# Altium integrated library Linear Technology Power Management LED Driver ICs.IntLib: 490 symbols (part 2 of 48)
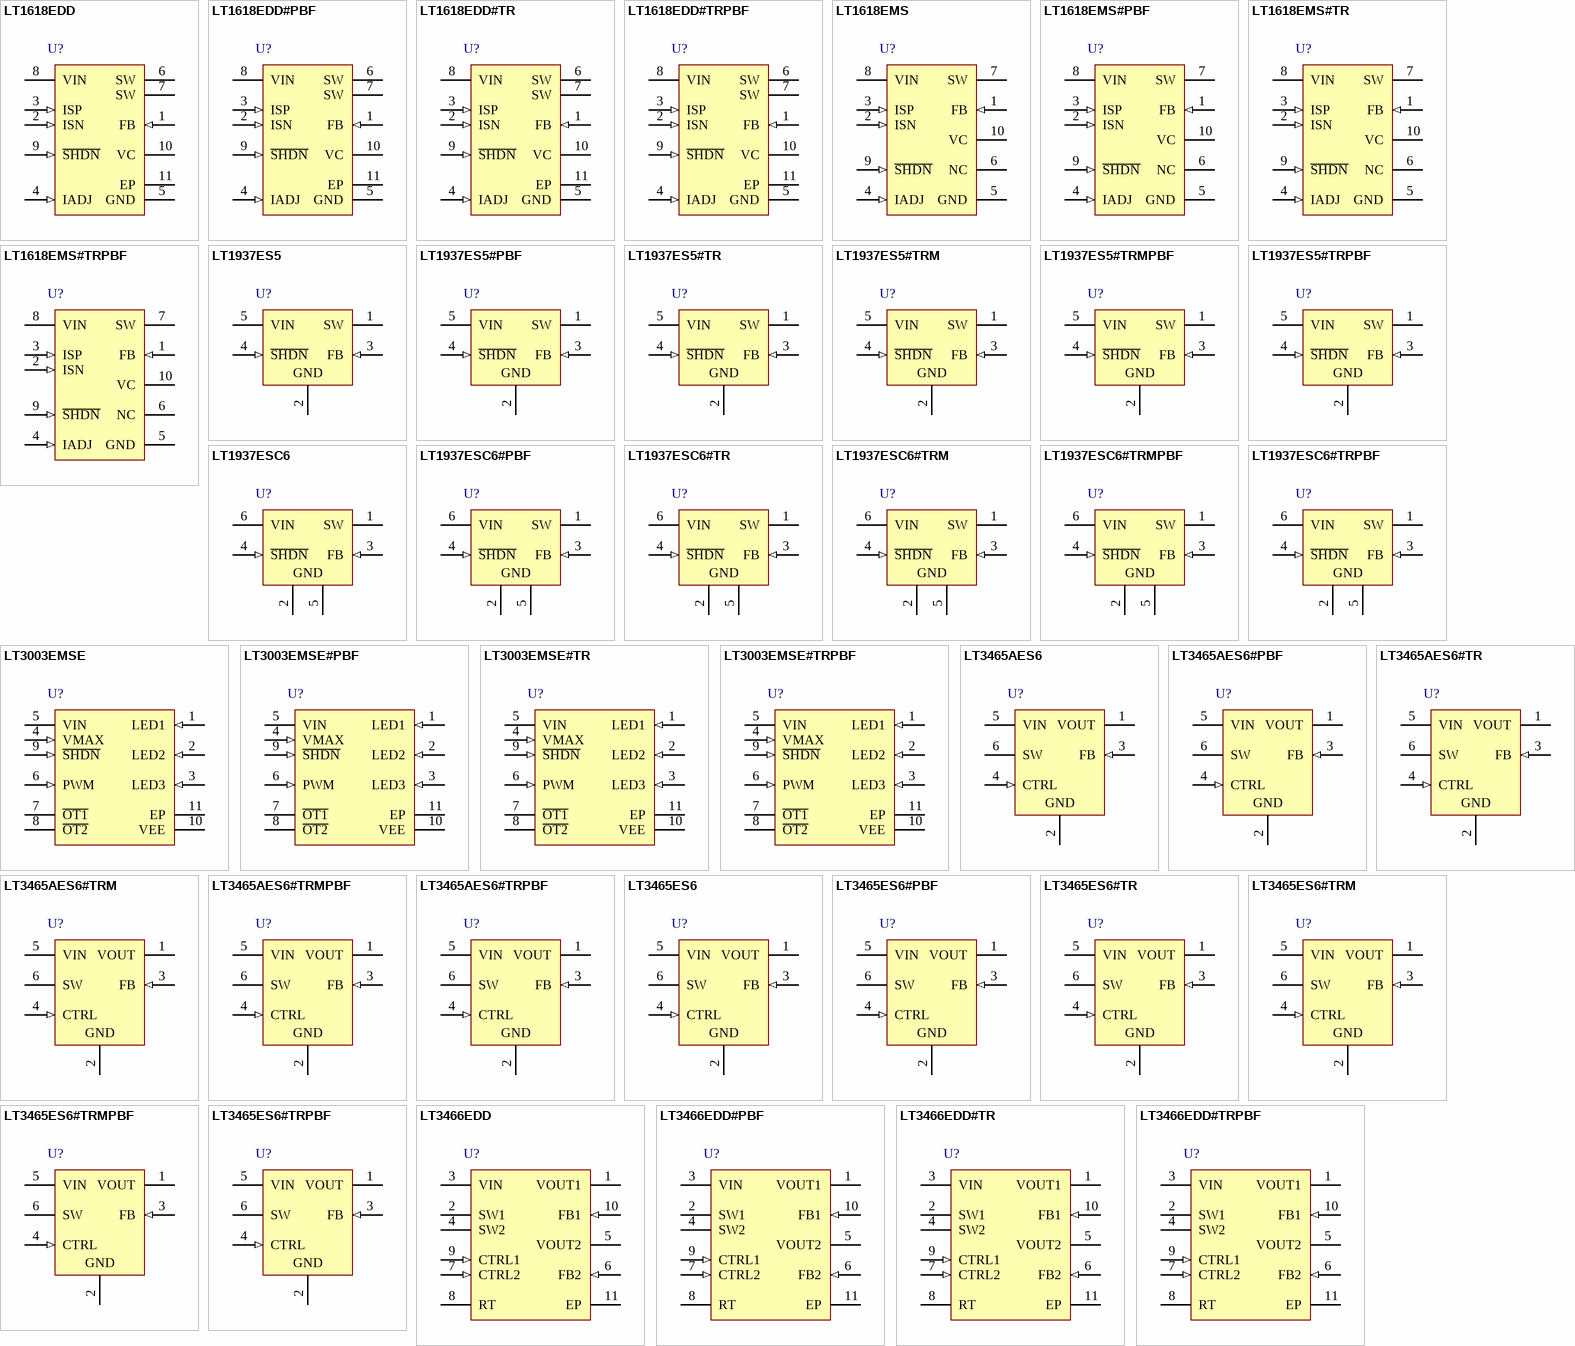
[diagram p21: symbols LT1618EDD to LT3466EDD#TRPBF]

## LT3003EMSE#TRPBF
designator U?
3-Channel LED Ballaster with PWM, 3 to 40 V Vin, 10-pin SOP (MSE-10-EDP), -40 to 125 degC, Pb-Free, Tape and Reel; Manufacturer: Linear Technology; PartNumber: LT3003EMSE#TRPBF; Vin Min(V): 3; DatasheetVersion: Rev. A; PackageVersion: Rev. C, 08/2009; PackageReference: MSE-10; PackageDescription: 10-Pin Plastic MSOP, Exposed Die Pad, Body 3 x 3 mm, Pitch 0.5 mm; Supplier 1: Digi-Key; Supplier Part Number 1: LT3003EMSE#TRPBF-ND; Packing: Tape and Reel; RoHS: TRUE; Topology: Ballaster; Mounting Technology: Surface Mount; ComponentLink1Description: Manufacturer URL; ComponentLink1URL: http://www.linear.com/; ComponentLink2Description: Datasheet; ComponentLink2URL: http://cds.linear.com/docs/en/datasheet/3003fa.pdf; ComponentLink3Description: Package Specification; ComponentLink3URL: http://cds.linear.com/docs/en/datasheet/3481fc.pdf
footprint LT-MSE-10-EDP-2060x1830TP_N (SOP, 10-Leads, Body 3.1x3.1mm, Pitch 0.5mm, Thermal Pad 2.17x1.94mm, IPC Medium Density)
footprint LT-MSE-10-EDP-2060x1830TP_L (SOP, 10-Leads, Body 3.1x3.1mm, Pitch 0.5mm, Thermal Pad 2.17x1.94mm, IPC High Density)
footprint LT-MSE-10-EDP-2060x1830TP_M (SOP, 10-Leads, Body 3.1x3.1mm, Pitch 0.5mm, Thermal Pad 2.17x1.94mm, IPC Low Density)
pins: 1 LED1 (in) "Controlled current input for a string of LEDs with a cathode lead connected to the pin. Connect the first string of LEDs to this pin.", 2 LED2 (in) "Controlled current input for a string of LEDs with a cathode lead connected to the pin. Connect the second string of LEDs to this pin.", 3 LED3 (in) "Controlled current input for a string of LEDs with a cathode lead connected to the pin. Connect the third string of LEDs to this pin.", 4 VMAX (in) "Boost: Connect to VOUT. Buck Mode: Connect to Input Supply. Buck-Boost Mode: Connect to VOUT.", 5 VIN (power) "Input Supply, Upper Rail. This pin must be locally bypassed with a capacitor to ground. VIN powers the internal control circuitry.", 6 PWM (in) "Input Pin for PWM Dimming Control. A PWM signal above 0.5V (on threshold) turns the LT3003 channels on. A PWM signal below 0.5V completely disconnects each LED string. If the application does not require PWM dimming, then (See Datasheet)", 7 ~{OT1} (oc) "Overtemperature Output. O\T\1\ pulls 100uA from the pin when the junction temperature exceeds 125degC. The part has to cool down by 6degC for the flag to reset; ideal for providing an overtemperature flag to the system (See Datasheet)", 8 ~{OT2} (oc) "Overtemperature Output. O\T\2\ Pulls 300uA from the pin when the junction temperature exceeds 125degC. The part has to cool down by 6degC for the flag to reset; ideal for connecting to the switching regulator gm error (See Datasheet)", 9 ~{SHDN} (in) "Micropower Shutdown Pin. Below 0.7V shuts down the IC. Typically IVIN = 4uA for SHDN = 0V.", 10 VEE (power) "Lower Rail.", 11 EP (power) "GND. The ground for the IC should be soldered to a continuous copper ground plane under the LT3003 die. Soldering the Exposed Pad to the copper ground plane under the device will reduce thermal resistance and increase the (See Datasheet)"

## LT3465AES6
designator U?
Integrated Schottky Ideal for White LED, 2.7 to 16 V Vin, 30 V Vout MAX, 6-pin SOT23 (S6-6), -40 to 85 degC; Manufacturer: Linear Technology; PartNumber: LT3465AES6; Topology: Boost, LED Driver; Vin Min(V): 2.7; DatasheetVersion: Rev. A; PackageVersion: Jun-10; PackageReference: S6-6; PackageDescription: 6-Pin Plastic TSOT-23, Body 2.9 x 1.63 mm, Pitch 0.95 mm; RoHS: FALSE; Mounting Technology: Surface Mount; Code_JEDEC: MO-193; ComponentLink1Description: Manufacturer URL; ComponentLink1URL: http://www.linear.com/; ComponentLink2Description: Datasheet; ComponentLink2URL: http://cds.linear.com/docs/en/datasheet/3465fa.pdf; ComponentLink3Description: Package Specification; ComponentLink3URL: http://cds.linear.com/docs/en/packaging/SOT_6_05-08-1636.pdf
footprint LT-S6-6-TSOT-23_N (SOT23, 6-Leads, Body 2.9x1.75mm, Pitch 0.95mm, IPC Medium Density)
footprint LT-S6-6-TSOT-23_L (SOT23, 6-Leads, Body 2.9x1.75mm, Pitch 0.95mm, IPC High Density)
footprint LT-S6-6-TSOT-23_M (SOT23, 6-Leads, Body 2.9x1.75mm, Pitch 0.95mm, IPC Low Density)
pins: 1 VOUT (power) "Output Pin. Connect to output capacitor and LEDs. Minimize trace between this pin and output capacitor to reduce EMI.", 2 GND (power) "Ground Pin. Connect directly to local groundplane.", 3 FB (in) "Feedback Pin. Reference voltage is 200mV.Connect LEDs and a resistor at this pin. LED current is determined by the resistance and CTRL pin voltage", 4 CTRL (in) "Dimming Control and Shutdown Pin. Ground this pin to shut down the device. When VCTRL is greater than about 1.8V, full-scale LED current is generated. When VCTRL is less than 1V, LED current is reduced. Floating this pin (See Datasheet)", 5 VIN (power) "Input Supply Pin. Must be locally bypassed with a 1 uF X5R or X7R type ceramic capacitor", 6 SW "Switch Pin. Connect inductor here"

## LT3465AES6#PBF
designator U?
Integrated Schottky Ideal for White LED, 2.7 to 16 V Vin, 30 V Vout MAX, 6-pin SOT23 (S6-6), -40 to 85 degC, Pb-Free; Manufacturer: Linear Technology; PartNumber: LT3465AES6#PBF; Topology: Boost, LED Driver; Vin Min(V): 2.7; DatasheetVersion: Rev. A; PackageVersion: Jun-10; PackageReference: S6-6; PackageDescription: 6-Pin Plastic TSOT-23, Body 2.9 x 1.63 mm, Pitch 0.95 mm; Supplier 1: Farnell; Supplier Part Number 1: 2308202; Supplier 2: Newark; Supplier Part Number 2: 78T3991; RoHS: TRUE; Mounting Technology: Surface Mount; Code_JEDEC: MO-193; ComponentLink1Description: Manufacturer URL; ComponentLink1URL: http://www.linear.com/; ComponentLink2Description: Datasheet; ComponentLink2URL: http://cds.linear.com/docs/en/datasheet/3465fa.pdf; ComponentLink3Description: Package Specification; ComponentLink3URL: http://cds.linear.com/docs/en/packaging/SOT_6_05-08-1636.pdf
footprint LT-S6-6-TSOT-23_N (SOT23, 6-Leads, Body 2.9x1.75mm, Pitch 0.95mm, IPC Medium Density)
footprint LT-S6-6-TSOT-23_L (SOT23, 6-Leads, Body 2.9x1.75mm, Pitch 0.95mm, IPC High Density)
footprint LT-S6-6-TSOT-23_M (SOT23, 6-Leads, Body 2.9x1.75mm, Pitch 0.95mm, IPC Low Density)
pins: 1 VOUT (power) "Output Pin. Connect to output capacitor and LEDs. Minimize trace between this pin and output capacitor to reduce EMI.", 2 GND (power) "Ground Pin. Connect directly to local groundplane.", 3 FB (in) "Feedback Pin. Reference voltage is 200mV.Connect LEDs and a resistor at this pin. LED current is determined by the resistance and CTRL pin voltage", 4 CTRL (in) "Dimming Control and Shutdown Pin. Ground this pin to shut down the device. When VCTRL is greater than about 1.8V, full-scale LED current is generated. When VCTRL is less than 1V, LED current is reduced. Floating this pin (See Datasheet)", 5 VIN (power) "Input Supply Pin. Must be locally bypassed with a 1 uF X5R or X7R type ceramic capacitor", 6 SW "Switch Pin. Connect inductor here"

## LT3465AES6#TR
designator U?
Integrated Schottky Ideal for White LED, 2.7 to 16 V Vin, 30 V Vout MAX, 6-pin SOT23 (S6-6), -40 to 85 degC, Tape and Reel; Manufacturer: Linear Technology; PartNumber: LT3465AES6#TR; Topology: Boost, LED Driver; Vin Min(V): 2.7; DatasheetVersion: Rev. A; PackageVersion: Jun-10; PackageReference: S6-6; PackageDescription: 6-Pin Plastic TSOT-23, Body 2.9 x 1.63 mm, Pitch 0.95 mm; Supplier 1: Digi-Key; Supplier Part Number 1: LT3465AES6#TR-ND; Packing: Tape and Reel; RoHS: FALSE; Mounting Technology: Surface Mount; Code_JEDEC: MO-193; ComponentLink1Description: Manufacturer URL; ComponentLink1URL: http://www.linear.com/; ComponentLink2Description: Datasheet; ComponentLink2URL: http://cds.linear.com/docs/en/datasheet/3465fa.pdf; ComponentLink3Description: Package Specification; ComponentLink3URL: http://cds.linear.com/docs/en/packaging/SOT_6_05-08-1636.pdf
footprint LT-S6-6-TSOT-23_N (SOT23, 6-Leads, Body 2.9x1.75mm, Pitch 0.95mm, IPC Medium Density)
footprint LT-S6-6-TSOT-23_L (SOT23, 6-Leads, Body 2.9x1.75mm, Pitch 0.95mm, IPC High Density)
footprint LT-S6-6-TSOT-23_M (SOT23, 6-Leads, Body 2.9x1.75mm, Pitch 0.95mm, IPC Low Density)
pins: 1 VOUT (power) "Output Pin. Connect to output capacitor and LEDs. Minimize trace between this pin and output capacitor to reduce EMI.", 2 GND (power) "Ground Pin. Connect directly to local groundplane.", 3 FB (in) "Feedback Pin. Reference voltage is 200mV.Connect LEDs and a resistor at this pin. LED current is determined by the resistance and CTRL pin voltage", 4 CTRL (in) "Dimming Control and Shutdown Pin. Ground this pin to shut down the device. When VCTRL is greater than about 1.8V, full-scale LED current is generated. When VCTRL is less than 1V, LED current is reduced. Floating this pin (See Datasheet)", 5 VIN (power) "Input Supply Pin. Must be locally bypassed with a 1 uF X5R or X7R type ceramic capacitor", 6 SW "Switch Pin. Connect inductor here"

## LT3465AES6#TRM
designator U?
Integrated Schottky Ideal for White LED, 2.7 to 16 V Vin, 30 V Vout MAX, 6-pin SOT23 (S6-6), -40 to 85 degC, Mini Tape and Reel; Manufacturer: Linear Technology; PartNumber: LT3465AES6#TRM; Topology: Boost, LED Driver; Vin Min(V): 2.7; DatasheetVersion: Rev. A; PackageVersion: Jun-10; PackageReference: S6-6; PackageDescription: 6-Pin Plastic TSOT-23, Body 2.9 x 1.63 mm, Pitch 0.95 mm; Supplier 1: Digi-Key; Supplier Part Number 1: LT3465AES6#TRMCT-ND; Packing: Mini Tape and Reel; RoHS: FALSE; Mounting Technology: Surface Mount; Code_JEDEC: MO-193; ComponentLink1Description: Manufacturer URL; ComponentLink1URL: http://www.linear.com/; ComponentLink2Description: Datasheet; ComponentLink2URL: http://cds.linear.com/docs/en/datasheet/3465fa.pdf; ComponentLink3Description: Package Specification; ComponentLink3URL: http://cds.linear.com/docs/en/packaging/SOT_6_05-08-1636.pdf
footprint LT-S6-6-TSOT-23_N (SOT23, 6-Leads, Body 2.9x1.75mm, Pitch 0.95mm, IPC Medium Density)
footprint LT-S6-6-TSOT-23_L (SOT23, 6-Leads, Body 2.9x1.75mm, Pitch 0.95mm, IPC High Density)
footprint LT-S6-6-TSOT-23_M (SOT23, 6-Leads, Body 2.9x1.75mm, Pitch 0.95mm, IPC Low Density)
pins: 1 VOUT (power) "Output Pin. Connect to output capacitor and LEDs. Minimize trace between this pin and output capacitor to reduce EMI.", 2 GND (power) "Ground Pin. Connect directly to local groundplane.", 3 FB (in) "Feedback Pin. Reference voltage is 200mV.Connect LEDs and a resistor at this pin. LED current is determined by the resistance and CTRL pin voltage", 4 CTRL (in) "Dimming Control and Shutdown Pin. Ground this pin to shut down the device. When VCTRL is greater than about 1.8V, full-scale LED current is generated. When VCTRL is less than 1V, LED current is reduced. Floating this pin (See Datasheet)", 5 VIN (power) "Input Supply Pin. Must be locally bypassed with a 1 uF X5R or X7R type ceramic capacitor", 6 SW "Switch Pin. Connect inductor here"

## LT3465AES6#TRMPBF
designator U?
Integrated Schottky Ideal for White LED, 2.7 to 16 V Vin, 30 V Vout MAX, 6-pin SOT23 (S6-6), -40 to 85 degC, Pb-Free, Mini Tape and Reel; Manufacturer: Linear Technology; PartNumber: LT3465AES6#TRMPBF; Topology: Boost, LED Driver; Vin Min(V): 2.7; DatasheetVersion: Rev. A; PackageVersion: Jun-10; PackageReference: S6-6; PackageDescription: 6-Pin Plastic TSOT-23, Body 2.9 x 1.63 mm, Pitch 0.95 mm; Supplier 1: Digi-Key; Supplier Part Number 1: LT3465AES6#TRMPBFTR-ND; Supplier 2: Digi-Key; Supplier Part Number 2: LT3465AES6#TRMPBFCT-ND; Supplier 3: Digi-Key; Supplier Part Number 3: LT3465AES6#TRMPBFDKR-ND; Supplier 4: Newark; Supplier Part Number 4: 57M8197; Packing: Mini Tape and Reel; RoHS: TRUE; Mounting Technology: Surface Mount; Code_JEDEC: MO-193; ComponentLink1Description: Manufacturer URL; ComponentLink1URL: http://www.linear.com/; ComponentLink2Description: Datasheet; ComponentLink2URL: http://cds.linear.com/docs/en/datasheet/3465fa.pdf; ComponentLink3Description: Package Specification; ComponentLink3URL: http://cds.linear.com/docs/en/packaging/SOT_6_05-08-1636.pdf
footprint LT-S6-6-TSOT-23_N (SOT23, 6-Leads, Body 2.9x1.75mm, Pitch 0.95mm, IPC Medium Density)
footprint LT-S6-6-TSOT-23_L (SOT23, 6-Leads, Body 2.9x1.75mm, Pitch 0.95mm, IPC High Density)
footprint LT-S6-6-TSOT-23_M (SOT23, 6-Leads, Body 2.9x1.75mm, Pitch 0.95mm, IPC Low Density)
pins: 1 VOUT (power) "Output Pin. Connect to output capacitor and LEDs. Minimize trace between this pin and output capacitor to reduce EMI.", 2 GND (power) "Ground Pin. Connect directly to local groundplane.", 3 FB (in) "Feedback Pin. Reference voltage is 200mV.Connect LEDs and a resistor at this pin. LED current is determined by the resistance and CTRL pin voltage", 4 CTRL (in) "Dimming Control and Shutdown Pin. Ground this pin to shut down the device. When VCTRL is greater than about 1.8V, full-scale LED current is generated. When VCTRL is less than 1V, LED current is reduced. Floating this pin (See Datasheet)", 5 VIN (power) "Input Supply Pin. Must be locally bypassed with a 1 uF X5R or X7R type ceramic capacitor", 6 SW "Switch Pin. Connect inductor here"

## LT3465AES6#TRPBF
designator U?
Integrated Schottky Ideal for White LED, 2.7 to 16 V Vin, 30 V Vout MAX, 6-pin SOT23 (S6-6), -40 to 85 degC, Pb-Free, Tape and Reel; Manufacturer: Linear Technology; PartNumber: LT3465AES6#TRPBF; Topology: Boost, LED Driver; Vin Min(V): 2.7; DatasheetVersion: Rev. A; PackageVersion: Jun-10; PackageReference: S6-6; PackageDescription: 6-Pin Plastic TSOT-23, Body 2.9 x 1.63 mm, Pitch 0.95 mm; Supplier 1: Digi-Key; Supplier Part Number 1: LT3465AES6#TRPBF-ND; Packing: Tape and Reel; RoHS: TRUE; Mounting Technology: Surface Mount; Code_JEDEC: MO-193; ComponentLink1Description: Manufacturer URL; ComponentLink1URL: http://www.linear.com/; ComponentLink2Description: Datasheet; ComponentLink2URL: http://cds.linear.com/docs/en/datasheet/3465fa.pdf; ComponentLink3Description: Package Specification; ComponentLink3URL: http://cds.linear.com/docs/en/packaging/SOT_6_05-08-1636.pdf
footprint LT-S6-6-TSOT-23_N (SOT23, 6-Leads, Body 2.9x1.75mm, Pitch 0.95mm, IPC Medium Density)
footprint LT-S6-6-TSOT-23_L (SOT23, 6-Leads, Body 2.9x1.75mm, Pitch 0.95mm, IPC High Density)
footprint LT-S6-6-TSOT-23_M (SOT23, 6-Leads, Body 2.9x1.75mm, Pitch 0.95mm, IPC Low Density)
pins: 1 VOUT (power) "Output Pin. Connect to output capacitor and LEDs. Minimize trace between this pin and output capacitor to reduce EMI.", 2 GND (power) "Ground Pin. Connect directly to local groundplane.", 3 FB (in) "Feedback Pin. Reference voltage is 200mV.Connect LEDs and a resistor at this pin. LED current is determined by the resistance and CTRL pin voltage", 4 CTRL (in) "Dimming Control and Shutdown Pin. Ground this pin to shut down the device. When VCTRL is greater than about 1.8V, full-scale LED current is generated. When VCTRL is less than 1V, LED current is reduced. Floating this pin (See Datasheet)", 5 VIN (power) "Input Supply Pin. Must be locally bypassed with a 1 uF X5R or X7R type ceramic capacitor", 6 SW "Switch Pin. Connect inductor here"

## LT3465ES6
designator U?
Integrated Schottky Ideal for White LED, 2.7 to 16 V Vin, 30 V Vout MAX, 6-pin SOT23 (S6-6), -40 to 85 degC; Manufacturer: Linear Technology; PartNumber: LT3465ES6; Topology: Boost, LED Driver; Vin Min(V): 2.7; DatasheetVersion: Rev. A; PackageVersion: Jun-10; PackageReference: S6-6; PackageDescription: 6-Pin Plastic TSOT-23, Body 2.9 x 1.63 mm, Pitch 0.95 mm; RoHS: FALSE; Mounting Technology: Surface Mount; Code_JEDEC: MO-193; ComponentLink1Description: Manufacturer URL; ComponentLink1URL: http://www.linear.com/; ComponentLink2Description: Datasheet; ComponentLink2URL: http://cds.linear.com/docs/en/datasheet/3465fa.pdf; ComponentLink3Description: Package Specification; ComponentLink3URL: http://cds.linear.com/docs/en/packaging/SOT_6_05-08-1636.pdf
footprint LT-S6-6-TSOT-23_N (SOT23, 6-Leads, Body 2.9x1.75mm, Pitch 0.95mm, IPC Medium Density)
footprint LT-S6-6-TSOT-23_L (SOT23, 6-Leads, Body 2.9x1.75mm, Pitch 0.95mm, IPC High Density)
footprint LT-S6-6-TSOT-23_M (SOT23, 6-Leads, Body 2.9x1.75mm, Pitch 0.95mm, IPC Low Density)
pins: 1 VOUT (power) "Output Pin. Connect to output capacitor and LEDs. Minimize trace between this pin and output capacitor to reduce EMI.", 2 GND (power) "Ground Pin. Connect directly to local groundplane.", 3 FB (in) "Feedback Pin. Reference voltage is 200mV.Connect LEDs and a resistor at this pin. LED current is determined by the resistance and CTRL pin voltage", 4 CTRL (in) "Dimming Control and Shutdown Pin. Ground this pin to shut down the device. When VCTRL is greater than about 1.8V, full-scale LED current is generated. When VCTRL is less than 1V, LED current is reduced. Floating this pin (See Datasheet)", 5 VIN (power) "Input Supply Pin. Must be locally bypassed with a 1 uF X5R or X7R type ceramic capacitor", 6 SW "Switch Pin. Connect inductor here"

## LT3465ES6#PBF
designator U?
Integrated Schottky Ideal for White LED, 2.7 to 16 V Vin, 30 V Vout MAX, 6-pin SOT23 (S6-6), -40 to 85 degC, Pb-Free; Manufacturer: Linear Technology; PartNumber: LT3465ES6#PBF; Topology: Boost, LED Driver; Vin Min(V): 2.7; DatasheetVersion: Rev. A; PackageVersion: Jun-10; PackageReference: S6-6; PackageDescription: 6-Pin Plastic TSOT-23, Body 2.9 x 1.63 mm, Pitch 0.95 mm; Supplier 1: Newark; Supplier Part Number 1: 78T3992; RoHS: TRUE; Mounting Technology: Surface Mount; Code_JEDEC: MO-193; ComponentLink1Description: Manufacturer URL; ComponentLink1URL: http://www.linear.com/; ComponentLink2Description: Datasheet; ComponentLink2URL: http://cds.linear.com/docs/en/datasheet/3465fa.pdf; ComponentLink3Description: Package Specification; ComponentLink3URL: http://cds.linear.com/docs/en/packaging/SOT_6_05-08-1636.pdf
footprint LT-S6-6-TSOT-23_N (SOT23, 6-Leads, Body 2.9x1.75mm, Pitch 0.95mm, IPC Medium Density)
footprint LT-S6-6-TSOT-23_L (SOT23, 6-Leads, Body 2.9x1.75mm, Pitch 0.95mm, IPC High Density)
footprint LT-S6-6-TSOT-23_M (SOT23, 6-Leads, Body 2.9x1.75mm, Pitch 0.95mm, IPC Low Density)
pins: 1 VOUT (power) "Output Pin. Connect to output capacitor and LEDs. Minimize trace between this pin and output capacitor to reduce EMI.", 2 GND (power) "Ground Pin. Connect directly to local groundplane.", 3 FB (in) "Feedback Pin. Reference voltage is 200mV.Connect LEDs and a resistor at this pin. LED current is determined by the resistance and CTRL pin voltage", 4 CTRL (in) "Dimming Control and Shutdown Pin. Ground this pin to shut down the device. When VCTRL is greater than about 1.8V, full-scale LED current is generated. When VCTRL is less than 1V, LED current is reduced. Floating this pin (See Datasheet)", 5 VIN (power) "Input Supply Pin. Must be locally bypassed with a 1 uF X5R or X7R type ceramic capacitor", 6 SW "Switch Pin. Connect inductor here"

## LT3465ES6#TR
designator U?
Integrated Schottky Ideal for White LED, 2.7 to 16 V Vin, 30 V Vout MAX, 6-pin SOT23 (S6-6), -40 to 85 degC, Tape and Reel; Manufacturer: Linear Technology; PartNumber: LT3465ES6#TR; Topology: Boost, LED Driver; Vin Min(V): 2.7; DatasheetVersion: Rev. A; PackageVersion: Jun-10; PackageReference: S6-6; PackageDescription: 6-Pin Plastic TSOT-23, Body 2.9 x 1.63 mm, Pitch 0.95 mm; Supplier 1: Digi-Key; Supplier Part Number 1: LT3465ES6#TR-ND; Packing: Tape and Reel; RoHS: FALSE; Mounting Technology: Surface Mount; Code_JEDEC: MO-193; ComponentLink1Description: Manufacturer URL; ComponentLink1URL: http://www.linear.com/; ComponentLink2Description: Datasheet; ComponentLink2URL: http://cds.linear.com/docs/en/datasheet/3465fa.pdf; ComponentLink3Description: Package Specification; ComponentLink3URL: http://cds.linear.com/docs/en/packaging/SOT_6_05-08-1636.pdf
footprint LT-S6-6-TSOT-23_N (SOT23, 6-Leads, Body 2.9x1.75mm, Pitch 0.95mm, IPC Medium Density)
footprint LT-S6-6-TSOT-23_L (SOT23, 6-Leads, Body 2.9x1.75mm, Pitch 0.95mm, IPC High Density)
footprint LT-S6-6-TSOT-23_M (SOT23, 6-Leads, Body 2.9x1.75mm, Pitch 0.95mm, IPC Low Density)
pins: 1 VOUT (power) "Output Pin. Connect to output capacitor and LEDs. Minimize trace between this pin and output capacitor to reduce EMI.", 2 GND (power) "Ground Pin. Connect directly to local groundplane.", 3 FB (in) "Feedback Pin. Reference voltage is 200mV.Connect LEDs and a resistor at this pin. LED current is determined by the resistance and CTRL pin voltage", 4 CTRL (in) "Dimming Control and Shutdown Pin. Ground this pin to shut down the device. When VCTRL is greater than about 1.8V, full-scale LED current is generated. When VCTRL is less than 1V, LED current is reduced. Floating this pin (See Datasheet)", 5 VIN (power) "Input Supply Pin. Must be locally bypassed with a 1 uF X5R or X7R type ceramic capacitor", 6 SW "Switch Pin. Connect inductor here"

## LT3465ES6#TRM
designator U?
Integrated Schottky Ideal for White LED, 2.7 to 16 V Vin, 30 V Vout MAX, 6-pin SOT23 (S6-6), -40 to 85 degC, Mini Tape and Reel; Manufacturer: Linear Technology; PartNumber: LT3465ES6#TRM; Topology: Boost, LED Driver; Vin Min(V): 2.7; DatasheetVersion: Rev. A; PackageVersion: Jun-10; PackageReference: S6-6; PackageDescription: 6-Pin Plastic TSOT-23, Body 2.9 x 1.63 mm, Pitch 0.95 mm; Supplier 1: Digi-Key; Supplier Part Number 1: LT3465ES6#TRMTR-ND; Supplier 2: Digi-Key; Supplier Part Number 2: LT3465ES6#TRMCT-ND; Packing: Mini Tape and Reel; RoHS: FALSE; Mounting Technology: Surface Mount; Code_JEDEC: MO-193; ComponentLink1Description: Manufacturer URL; ComponentLink1URL: http://www.linear.com/; ComponentLink2Description: Datasheet; ComponentLink2URL: http://cds.linear.com/docs/en/datasheet/3465fa.pdf; ComponentLink3Description: Package Specification; ComponentLink3URL: http://cds.linear.com/docs/en/packaging/SOT_6_05-08-1636.pdf
footprint LT-S6-6-TSOT-23_N (SOT23, 6-Leads, Body 2.9x1.75mm, Pitch 0.95mm, IPC Medium Density)
footprint LT-S6-6-TSOT-23_L (SOT23, 6-Leads, Body 2.9x1.75mm, Pitch 0.95mm, IPC High Density)
footprint LT-S6-6-TSOT-23_M (SOT23, 6-Leads, Body 2.9x1.75mm, Pitch 0.95mm, IPC Low Density)
pins: 1 VOUT (power) "Output Pin. Connect to output capacitor and LEDs. Minimize trace between this pin and output capacitor to reduce EMI.", 2 GND (power) "Ground Pin. Connect directly to local groundplane.", 3 FB (in) "Feedback Pin. Reference voltage is 200mV.Connect LEDs and a resistor at this pin. LED current is determined by the resistance and CTRL pin voltage", 4 CTRL (in) "Dimming Control and Shutdown Pin. Ground this pin to shut down the device. When VCTRL is greater than about 1.8V, full-scale LED current is generated. When VCTRL is less than 1V, LED current is reduced. Floating this pin (See Datasheet)", 5 VIN (power) "Input Supply Pin. Must be locally bypassed with a 1 uF X5R or X7R type ceramic capacitor", 6 SW "Switch Pin. Connect inductor here"

## LT3465ES6#TRMPBF
designator U?
Integrated Schottky Ideal for White LED, 2.7 to 16 V Vin, 30 V Vout MAX, 6-pin SOT23 (S6-6), -40 to 85 degC, Pb-Free, Mini Tape and Reel; Manufacturer: Linear Technology; PartNumber: LT3465ES6#TRMPBF; Topology: Boost, LED Driver; Vin Min(V): 2.7; DatasheetVersion: Rev. A; PackageVersion: Jun-10; PackageReference: S6-6; PackageDescription: 6-Pin Plastic TSOT-23, Body 2.9 x 1.63 mm, Pitch 0.95 mm; Supplier 1: Digi-Key; Supplier Part Number 1: LT3465ES6#TRMPBFTR-ND; Supplier 2: Digi-Key; Supplier Part Number 2: LT3465ES6#TRMPBFCT-ND; Supplier 3: Digi-Key; Supplier Part Number 3: LT3465ES6#TRMPBFDKR-ND; Supplier 4: Farnell; Supplier Part Number 4: 1663826RL; Supplier 5: Farnell; Supplier Part Number 5: 1663826; Supplier 6: Newark; Supplier Part Number 6: 57M8201; Supplier 7: Newark; Supplier Part Number 7: 59M8322; Packing: Mini Tape and Reel; RoHS: TRUE; Mounting Technology: Surface Mount; Code_JEDEC: MO-193; ComponentLink1Description: Manufacturer URL; ComponentLink1URL: http://www.linear.com/; ComponentLink2Description: Datasheet; ComponentLink2URL: http://cds.linear.com/docs/en/datasheet/3465fa.pdf; ComponentLink3Description: Package Specification; ComponentLink3URL: http://cds.linear.com/docs/en/packaging/SOT_6_05-08-1636.pdf
footprint LT-S6-6-TSOT-23_N (SOT23, 6-Leads, Body 2.9x1.75mm, Pitch 0.95mm, IPC Medium Density)
footprint LT-S6-6-TSOT-23_L (SOT23, 6-Leads, Body 2.9x1.75mm, Pitch 0.95mm, IPC High Density)
footprint LT-S6-6-TSOT-23_M (SOT23, 6-Leads, Body 2.9x1.75mm, Pitch 0.95mm, IPC Low Density)
pins: 1 VOUT (power) "Output Pin. Connect to output capacitor and LEDs. Minimize trace between this pin and output capacitor to reduce EMI.", 2 GND (power) "Ground Pin. Connect directly to local groundplane.", 3 FB (in) "Feedback Pin. Reference voltage is 200mV.Connect LEDs and a resistor at this pin. LED current is determined by the resistance and CTRL pin voltage", 4 CTRL (in) "Dimming Control and Shutdown Pin. Ground this pin to shut down the device. When VCTRL is greater than about 1.8V, full-scale LED current is generated. When VCTRL is less than 1V, LED current is reduced. Floating this pin (See Datasheet)", 5 VIN (power) "Input Supply Pin. Must be locally bypassed with a 1 uF X5R or X7R type ceramic capacitor", 6 SW "Switch Pin. Connect inductor here"

## LT3465ES6#TRPBF
designator U?
Integrated Schottky Ideal for White LED, 2.7 to 16 V Vin, 30 V Vout MAX, 6-pin SOT23 (S6-6), -40 to 85 degC, Pb-Free, Tape and Reel; Manufacturer: Linear Technology; PartNumber: LT3465ES6#TRPBF; Topology: Boost, LED Driver; Vin Min(V): 2.7; DatasheetVersion: Rev. A; PackageVersion: Jun-10; PackageReference: S6-6; PackageDescription: 6-Pin Plastic TSOT-23, Body 2.9 x 1.63 mm, Pitch 0.95 mm; Supplier 1: Digi-Key; Supplier Part Number 1: LT3465ES6#TRPBF-ND; Supplier 2: Newark; Supplier Part Number 2: 57M8202; Packing: Tape and Reel; RoHS: TRUE; Mounting Technology: Surface Mount; Code_JEDEC: MO-193; ComponentLink1Description: Manufacturer URL; ComponentLink1URL: http://www.linear.com/; ComponentLink2Description: Datasheet; ComponentLink2URL: http://cds.linear.com/docs/en/datasheet/3465fa.pdf; ComponentLink3Description: Package Specification; ComponentLink3URL: http://cds.linear.com/docs/en/packaging/SOT_6_05-08-1636.pdf
footprint LT-S6-6-TSOT-23_N (SOT23, 6-Leads, Body 2.9x1.75mm, Pitch 0.95mm, IPC Medium Density)
footprint LT-S6-6-TSOT-23_L (SOT23, 6-Leads, Body 2.9x1.75mm, Pitch 0.95mm, IPC High Density)
footprint LT-S6-6-TSOT-23_M (SOT23, 6-Leads, Body 2.9x1.75mm, Pitch 0.95mm, IPC Low Density)
pins: 1 VOUT (power) "Output Pin. Connect to output capacitor and LEDs. Minimize trace between this pin and output capacitor to reduce EMI.", 2 GND (power) "Ground Pin. Connect directly to local groundplane.", 3 FB (in) "Feedback Pin. Reference voltage is 200mV.Connect LEDs and a resistor at this pin. LED current is determined by the resistance and CTRL pin voltage", 4 CTRL (in) "Dimming Control and Shutdown Pin. Ground this pin to shut down the device. When VCTRL is greater than about 1.8V, full-scale LED current is generated. When VCTRL is less than 1V, LED current is reduced. Floating this pin (See Datasheet)", 5 VIN (power) "Input Supply Pin. Must be locally bypassed with a 1 uF X5R or X7R type ceramic capacitor", 6 SW "Switch Pin. Connect inductor here"

## LT3466EDD
designator U?
Dual Outputs / Integrated Schottky, Soft-Start, 2.7 to 24 V Vin, 39.5 V Vout MAX, 10-pin SON (DD-10), -40 to 85 degC; Manufacturer: Linear Technology; PartNumber: LT3466EDD; Topology: Boost, LED Driver; Vin Min(V): 2.7; DatasheetVersion: Rev. A; PackageVersion: Rev. C, 06/2010; PackageReference: DD-10; PackageDescription: 10-Pin Plastic DFN, Body 3 x 3 mm, Pitch 0.5 mm; Supplier 1: Digi-Key; Supplier Part Number 1: LT3466EDD-ND; Supplier 2: Newark; Supplier Part Number 2: 57M8203; RoHS: FALSE; Mounting Technology: Surface Mount; Code_JEDEC: MO-229; ComponentLink1Description: Manufacturer URL; ComponentLink1URL: http://www.linear.com/; ComponentLink2Description: Datasheet; ComponentLink2URL: http://cds.linear.com/docs/en/datasheet/3466fa.pdf; ComponentLink3Description: Package Specification; ComponentLink3URL: http://cds.linear.com/docs/en/packaging/DFN_10_05-08-1699.pdf
footprint LT-DD-10_V (SON, 10-Leads, Body 3x3mm, Pitch 0.5mm, Thermal Pad 2.38x1.65mm)
pins: 1 VOUT1 (power) "Output of Converter 1. This pin is connected to the cathode of the internal Schottky diode.Connect an output capacitor from this pin to ground", 2 SW1 "Switch Pin for Converter 1. Connect the inductor at this pin", 3 VIN (power) "Input Supply Pin. Must be locallybypassed with a 1uF, X5R or X7R type ceramic capacitor.", 4 SW2 "Switch Pin for Converter 2. Connect the inductor at this pin.", 5 VOUT2 (power) "Output of Converter 2. This pin is connected to the cathode of the internal Schottky diode.Connect an output capacitor from this pin to ground", 6 FB2 (in), 7 CTRL2 (in), 8 RT "Timing Resistor to Program the Switching Frequency. The switching frequency can be programmed from 200KHz to 2MHz", 9 CTRL1 (in) "Dimming and Shutdown Pin for Converter 1. Connect this pin to ground to disable the converter. As the pin voltage is ramped from 0V to 1.6V, the LED current ramps from 0 to ILED21(= 200mV/RFB2). Any voltage above 1.6V does (See Datasheet)", 10 FB1 (in) "Feedback Pin for Converter 1. The nominal voltage at this pin is 200mV. Connect cathode of the lowest LED and the feedback resisitor at this pin. The LED current can be programmed by : ILED2 ˜ (200mV/RFB2), when VCTRL2 > 1(See Datasheet)", 11 EP (power) "The Exposed Pad must be soldered to the PCB system ground."

## LT3466EDD#PBF
designator U?
Dual Outputs / Integrated Schottky, Soft-Start, 2.7 to 24 V Vin, 39.5 V Vout MAX, 10-pin SON (DD-10), -40 to 85 degC, Pb-Free; Manufacturer: Linear Technology; PartNumber: LT3466EDD#PBF; Topology: Boost, LED Driver; Vin Min(V): 2.7; DatasheetVersion: Rev. A; PackageVersion: Rev. C, 06/2010; PackageReference: DD-10; PackageDescription: 10-Pin Plastic DFN, Body 3 x 3 mm, Pitch 0.5 mm; Supplier 1: Digi-Key; Supplier Part Number 1: LT3466EDD#PBF-ND; Supplier 2: Farnell; Supplier Part Number 2: 2294840; Supplier 3: Newark; Supplier Part Number 3: 57M8208; RoHS: TRUE; Mounting Technology: Surface Mount; Code_JEDEC: MO-229; ComponentLink1Description: Manufacturer URL; ComponentLink1URL: http://www.linear.com/; ComponentLink2Description: Datasheet; ComponentLink2URL: http://cds.linear.com/docs/en/datasheet/3466fa.pdf; ComponentLink3Description: Package Specification; ComponentLink3URL: http://cds.linear.com/docs/en/packaging/DFN_10_05-08-1699.pdf
footprint LT-DD-10_V (SON, 10-Leads, Body 3x3mm, Pitch 0.5mm, Thermal Pad 2.38x1.65mm)
pins: 1 VOUT1 (power) "Output of Converter 1. This pin is connected to the cathode of the internal Schottky diode.Connect an output capacitor from this pin to ground", 2 SW1 "Switch Pin for Converter 1. Connect the inductor at this pin", 3 VIN (power) "Input Supply Pin. Must be locallybypassed with a 1uF, X5R or X7R type ceramic capacitor.", 4 SW2 "Switch Pin for Converter 2. Connect the inductor at this pin.", 5 VOUT2 (power) "Output of Converter 2. This pin is connected to the cathode of the internal Schottky diode.Connect an output capacitor from this pin to ground", 6 FB2 (in), 7 CTRL2 (in), 8 RT "Timing Resistor to Program the Switching Frequency. The switching frequency can be programmed from 200KHz to 2MHz", 9 CTRL1 (in) "Dimming and Shutdown Pin for Converter 1. Connect this pin to ground to disable the converter. As the pin voltage is ramped from 0V to 1.6V, the LED current ramps from 0 to ILED21(= 200mV/RFB2). Any voltage above 1.6V does (See Datasheet)", 10 FB1 (in) "Feedback Pin for Converter 1. The nominal voltage at this pin is 200mV. Connect cathode of the lowest LED and the feedback resisitor at this pin. The LED current can be programmed by : ILED2 ˜ (200mV/RFB2), when VCTRL2 > 1(See Datasheet)", 11 EP (power) "The Exposed Pad must be soldered to the PCB system ground."

## LT3466EDD#TR
designator U?
Dual Outputs / Integrated Schottky, Soft-Start, 2.7 to 24 V Vin, 39.5 V Vout MAX, 10-pin SON (DD-10), -40 to 85 degC, Tape and Reel; Manufacturer: Linear Technology; PartNumber: LT3466EDD#TR; Topology: Boost, LED Driver; Vin Min(V): 2.7; DatasheetVersion: Rev. A; PackageVersion: Rev. C, 06/2010; PackageReference: DD-10; PackageDescription: 10-Pin Plastic DFN, Body 3 x 3 mm, Pitch 0.5 mm; Supplier 1: Digi-Key; Supplier Part Number 1: LT3466EDD#TR-ND; Packing: Tape and Reel; RoHS: FALSE; Mounting Technology: Surface Mount; Code_JEDEC: MO-229; ComponentLink1Description: Manufacturer URL; ComponentLink1URL: http://www.linear.com/; ComponentLink2Description: Datasheet; ComponentLink2URL: http://cds.linear.com/docs/en/datasheet/3466fa.pdf; ComponentLink3Description: Package Specification; ComponentLink3URL: http://cds.linear.com/docs/en/packaging/DFN_10_05-08-1699.pdf
footprint LT-DD-10_V (SON, 10-Leads, Body 3x3mm, Pitch 0.5mm, Thermal Pad 2.38x1.65mm)
pins: 1 VOUT1 (power) "Output of Converter 1. This pin is connected to the cathode of the internal Schottky diode.Connect an output capacitor from this pin to ground", 2 SW1 "Switch Pin for Converter 1. Connect the inductor at this pin", 3 VIN (power) "Input Supply Pin. Must be locallybypassed with a 1uF, X5R or X7R type ceramic capacitor.", 4 SW2 "Switch Pin for Converter 2. Connect the inductor at this pin.", 5 VOUT2 (power) "Output of Converter 2. This pin is connected to the cathode of the internal Schottky diode.Connect an output capacitor from this pin to ground", 6 FB2 (in), 7 CTRL2 (in), 8 RT "Timing Resistor to Program the Switching Frequency. The switching frequency can be programmed from 200KHz to 2MHz", 9 CTRL1 (in) "Dimming and Shutdown Pin for Converter 1. Connect this pin to ground to disable the converter. As the pin voltage is ramped from 0V to 1.6V, the LED current ramps from 0 to ILED21(= 200mV/RFB2). Any voltage above 1.6V does (See Datasheet)", 10 FB1 (in) "Feedback Pin for Converter 1. The nominal voltage at this pin is 200mV. Connect cathode of the lowest LED and the feedback resisitor at this pin. The LED current can be programmed by : ILED2 ˜ (200mV/RFB2), when VCTRL2 > 1(See Datasheet)", 11 EP (power) "The Exposed Pad must be soldered to the PCB system ground."

## LT3466EDD#TRPBF
designator U?
Dual Outputs / Integrated Schottky, Soft-Start, 2.7 to 24 V Vin, 39.5 V Vout MAX, 10-pin SON (DD-10), -40 to 85 degC, Pb-Free, Tape and Reel; Manufacturer: Linear Technology; PartNumber: LT3466EDD#TRPBF; Topology: Boost, LED Driver; Vin Min(V): 2.7; DatasheetVersion: Rev. A; PackageVersion: Rev. C, 06/2010; PackageReference: DD-10; PackageDescription: 10-Pin Plastic DFN, Body 3 x 3 mm, Pitch 0.5 mm; Supplier 1: Digi-Key; Supplier Part Number 1: LT3466EDD#TRPBF-ND; Supplier 2: Newark; Supplier Part Number 2: 57M8210; Packing: Tape and Reel; RoHS: TRUE; Mounting Technology: Surface Mount; Code_JEDEC: MO-229; ComponentLink1Description: Manufacturer URL; ComponentLink1URL: http://www.linear.com/; ComponentLink2Description: Datasheet; ComponentLink2URL: http://cds.linear.com/docs/en/datasheet/3466fa.pdf; ComponentLink3Description: Package Specification; ComponentLink3URL: http://cds.linear.com/docs/en/packaging/DFN_10_05-08-1699.pdf
footprint LT-DD-10_V (SON, 10-Leads, Body 3x3mm, Pitch 0.5mm, Thermal Pad 2.38x1.65mm)
pins: 1 VOUT1 (power) "Output of Converter 1. This pin is connected to the cathode of the internal Schottky diode.Connect an output capacitor from this pin to ground", 2 SW1 "Switch Pin for Converter 1. Connect the inductor at this pin", 3 VIN (power) "Input Supply Pin. Must be locallybypassed with a 1uF, X5R or X7R type ceramic capacitor.", 4 SW2 "Switch Pin for Converter 2. Connect the inductor at this pin.", 5 VOUT2 (power) "Output of Converter 2. This pin is connected to the cathode of the internal Schottky diode.Connect an output capacitor from this pin to ground", 6 FB2 (in), 7 CTRL2 (in), 8 RT "Timing Resistor to Program the Switching Frequency. The switching frequency can be programmed from 200KHz to 2MHz", 9 CTRL1 (in) "Dimming and Shutdown Pin for Converter 1. Connect this pin to ground to disable the converter. As the pin voltage is ramped from 0V to 1.6V, the LED current ramps from 0 to ILED21(= 200mV/RFB2). Any voltage above 1.6V does (See Datasheet)", 10 FB1 (in) "Feedback Pin for Converter 1. The nominal voltage at this pin is 200mV. Connect cathode of the lowest LED and the feedback resisitor at this pin. The LED current can be programmed by : ILED2 ˜ (200mV/RFB2), when VCTRL2 > 1(See Datasheet)", 11 EP (power) "The Exposed Pad must be soldered to the PCB system ground."

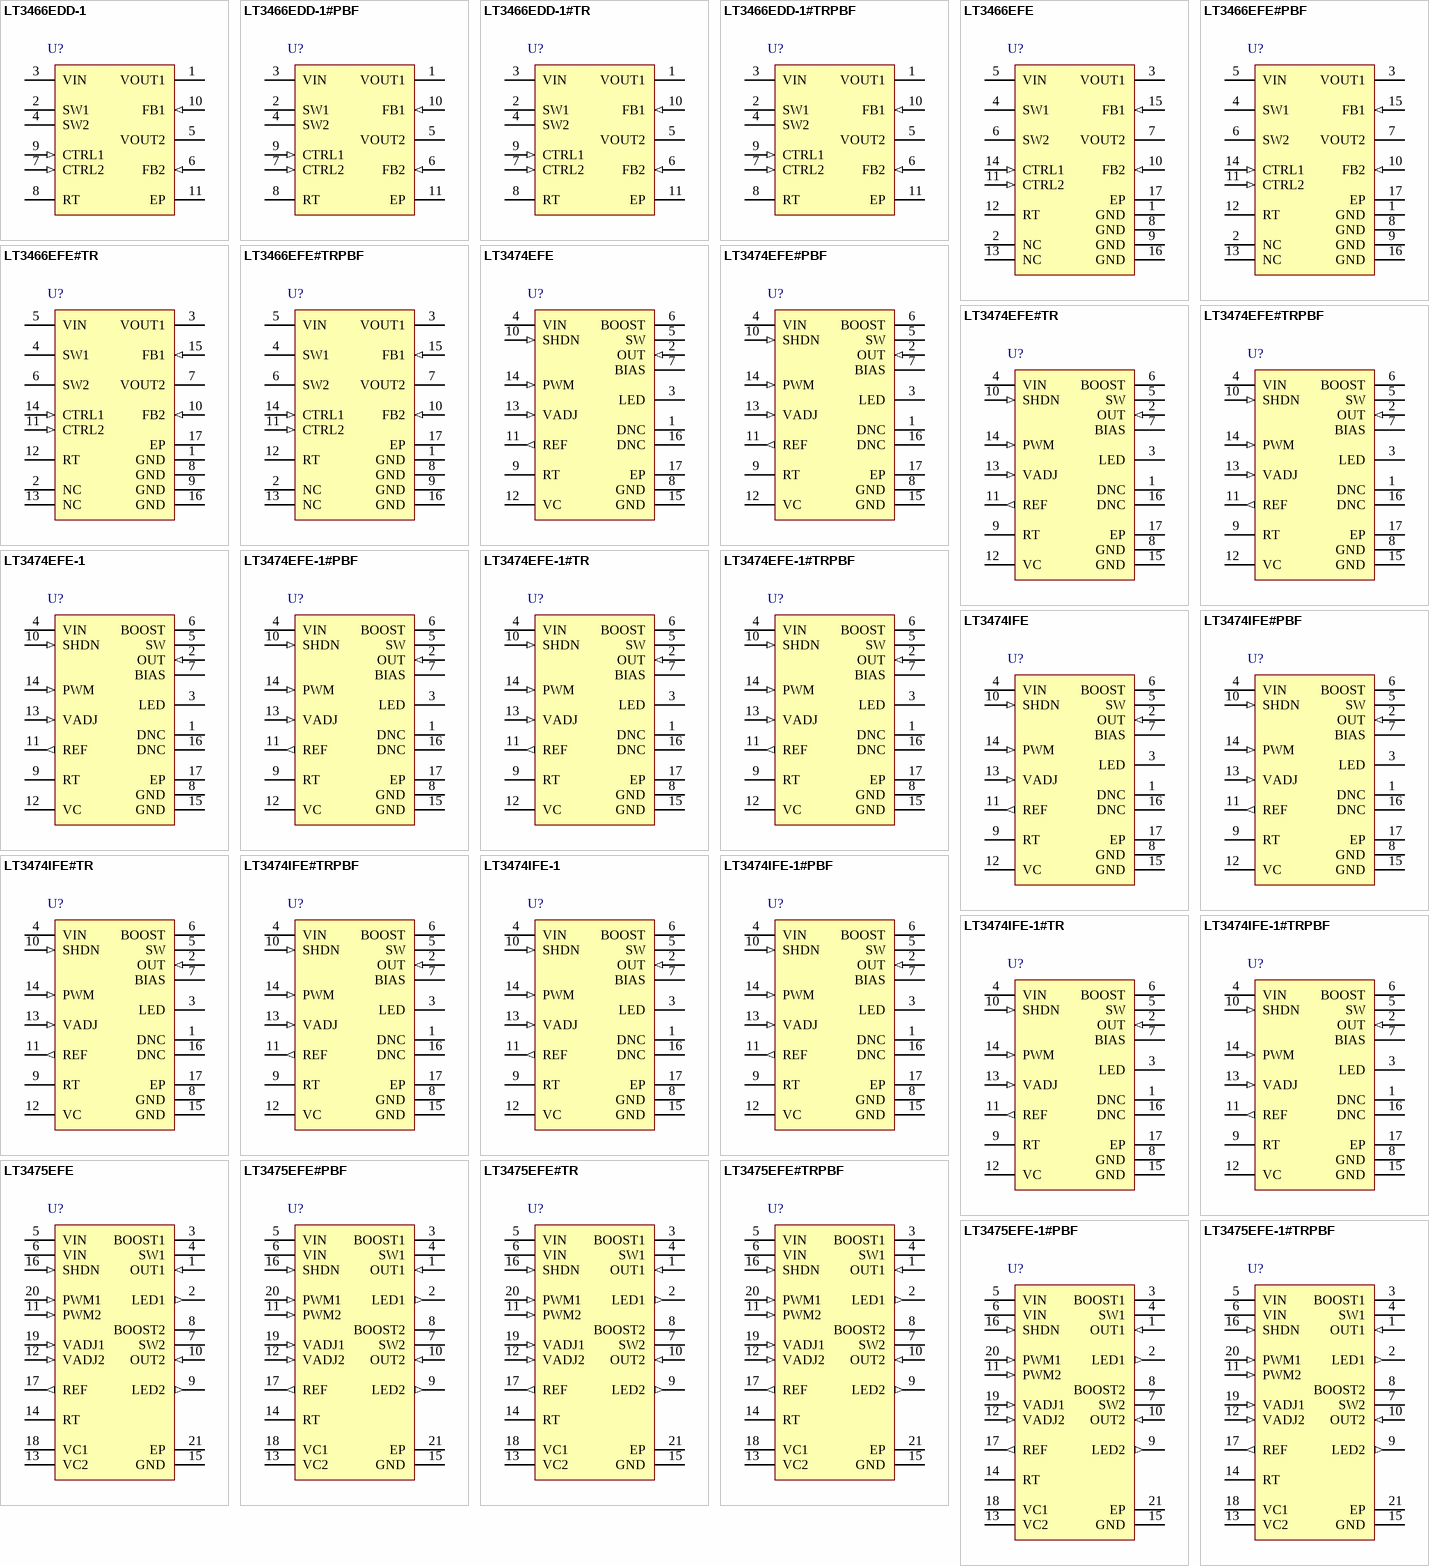
[diagram p1: symbols LT3466EDD-1 to LT3475EFE-1#TRPBF]

## LT3466EDD-1
designator U?
White LED Driver and Boost Converter, 2.7 to 24 V Vin, 39.5 V Vout MAX, 10-pin SON (DD-10), -40 to 85 degC; Manufacturer: Linear Technology; PartNumber: LT3466EDD-1; Vin Min(V): 2.7; PackageVersion: Rev. C, 06/2010; PackageReference: DD-10; PackageDescription: 10-Pin Plastic DFN, Body 3 x 3 mm, Pitch 0.5 mm; RoHS: FALSE; Topology: Boost; Mounting Technology: Surface Mount; Code_JEDEC: MO-229; ComponentLink1Description: Manufacturer URL; ComponentLink1URL: http://www.linear.com/; ComponentLink2Description: Datasheet; ComponentLink2URL: http://cds.linear.com/docs/en/datasheet/34661f.pdf; ComponentLink3Description: Package Specification; ComponentLink3URL: http://cds.linear.com/docs/en/packaging/DFN_10_05-08-1699.pdf
footprint LT-DD-10_V (SON, 10-Leads, Body 3x3mm, Pitch 0.5mm, Thermal Pad 2.38x1.65mm)
pins: 1 VOUT1 (power) "Output of Converter 1. This pin is connected to the cathode of the internal Schottky diode.Connect an output capacitor from this pin to ground", 2 SW1 "Switch Pin for Converter 1. Connect the inductor at this pin", 3 VIN (power) "Input Supply Pin. Must be locallybypassed with a 1uF, X5R or X7R type ceramic capacitor.", 4 SW2 "Switch Pin for Converter 2. Connect the inductor at this pin.", 5 VOUT2 (power) "Output of Converter 2. This pin is connected to the cathode of the internal Schottky diode.Connect an output capacitor from this pin to ground", 6 FB2 (in), 7 CTRL2 (in), 8 RT "Timing Resistor to Program the Switching Frequency. The switching frequency can be programmed from 200KHz to 2MHz", 9 CTRL1 (in) "Dimming and Shutdown Pin for Converter 1. Connect this pin to ground to disable the converter. As the pin voltage is ramped from 0V to 1.6V, the LED current ramps from 0 to ILED21(= 200mV/RFB2). Any voltage above 1.6V does (See Datasheet)", 10 FB1 (in) "Feedback Pin for Converter 1. The nominal voltage at this pin is 200mV. Connect cathode of the lowest LED and the feedback resisitor at this pin. The LED current can be programmed by : ILED2 ˜ (200mV/RFB2), when VCTRL2 > 1(See Datasheet)", 11 EP (power) "The Exposed Pad must be soldered to the PCB system ground."

## LT3466EDD-1#PBF
designator U?
White LED Driver and Boost Converter, 2.7 to 24 V Vin, 39.5 V Vout MAX, 10-pin SON (DD-10), -40 to 85 degC, Pb-Free; Manufacturer: Linear Technology; PartNumber: LT3466EDD-1#PBF; Vin Min(V): 2.7; PackageVersion: Rev. C, 06/2010; PackageReference: DD-10; PackageDescription: 10-Pin Plastic DFN, Body 3 x 3 mm, Pitch 0.5 mm; Supplier 1: Digi-Key; Supplier Part Number 1: LT3466EDD-1#PBF-ND; Supplier 2: Farnell; Supplier Part Number 2: 2294841; Supplier 3: Newark; Supplier Part Number 3: 57M8205; RoHS: TRUE; Topology: Boost; Mounting Technology: Surface Mount; Code_JEDEC: MO-229; ComponentLink1Description: Manufacturer URL; ComponentLink1URL: http://www.linear.com/; ComponentLink2Description: Datasheet; ComponentLink2URL: http://cds.linear.com/docs/en/datasheet/34661f.pdf; ComponentLink3Description: Package Specification; ComponentLink3URL: http://cds.linear.com/docs/en/packaging/DFN_10_05-08-1699.pdf
footprint LT-DD-10_V (SON, 10-Leads, Body 3x3mm, Pitch 0.5mm, Thermal Pad 2.38x1.65mm)
pins: 1 VOUT1 (power) "Output of Converter 1. This pin is connected to the cathode of the internal Schottky diode.Connect an output capacitor from this pin to ground", 2 SW1 "Switch Pin for Converter 1. Connect the inductor at this pin", 3 VIN (power) "Input Supply Pin. Must be locallybypassed with a 1uF, X5R or X7R type ceramic capacitor.", 4 SW2 "Switch Pin for Converter 2. Connect the inductor at this pin.", 5 VOUT2 (power) "Output of Converter 2. This pin is connected to the cathode of the internal Schottky diode.Connect an output capacitor from this pin to ground", 6 FB2 (in), 7 CTRL2 (in), 8 RT "Timing Resistor to Program the Switching Frequency. The switching frequency can be programmed from 200KHz to 2MHz", 9 CTRL1 (in) "Dimming and Shutdown Pin for Converter 1. Connect this pin to ground to disable the converter. As the pin voltage is ramped from 0V to 1.6V, the LED current ramps from 0 to ILED21(= 200mV/RFB2). Any voltage above 1.6V does (See Datasheet)", 10 FB1 (in) "Feedback Pin for Converter 1. The nominal voltage at this pin is 200mV. Connect cathode of the lowest LED and the feedback resisitor at this pin. The LED current can be programmed by : ILED2 ˜ (200mV/RFB2), when VCTRL2 > 1(See Datasheet)", 11 EP (power) "The Exposed Pad must be soldered to the PCB system ground."

## LT3466EDD-1#TR
designator U?
White LED Driver and Boost Converter, 2.7 to 24 V Vin, 39.5 V Vout MAX, 10-pin SON (DD-10), -40 to 85 degC, Tape and Reel; Manufacturer: Linear Technology; PartNumber: LT3466EDD-1#TR; Vin Min(V): 2.7; PackageVersion: Rev. C, 06/2010; PackageReference: DD-10; PackageDescription: 10-Pin Plastic DFN, Body 3 x 3 mm, Pitch 0.5 mm; Packing: Tape and Reel; RoHS: FALSE; Topology: Boost; Mounting Technology: Surface Mount; Code_JEDEC: MO-229; ComponentLink1Description: Manufacturer URL; ComponentLink1URL: http://www.linear.com/; ComponentLink2Description: Datasheet; ComponentLink2URL: http://cds.linear.com/docs/en/datasheet/34661f.pdf; ComponentLink3Description: Package Specification; ComponentLink3URL: http://cds.linear.com/docs/en/packaging/DFN_10_05-08-1699.pdf
footprint LT-DD-10_V (SON, 10-Leads, Body 3x3mm, Pitch 0.5mm, Thermal Pad 2.38x1.65mm)
pins: 1 VOUT1 (power) "Output of Converter 1. This pin is connected to the cathode of the internal Schottky diode.Connect an output capacitor from this pin to ground", 2 SW1 "Switch Pin for Converter 1. Connect the inductor at this pin", 3 VIN (power) "Input Supply Pin. Must be locallybypassed with a 1uF, X5R or X7R type ceramic capacitor.", 4 SW2 "Switch Pin for Converter 2. Connect the inductor at this pin.", 5 VOUT2 (power) "Output of Converter 2. This pin is connected to the cathode of the internal Schottky diode.Connect an output capacitor from this pin to ground", 6 FB2 (in), 7 CTRL2 (in), 8 RT "Timing Resistor to Program the Switching Frequency. The switching frequency can be programmed from 200KHz to 2MHz", 9 CTRL1 (in) "Dimming and Shutdown Pin for Converter 1. Connect this pin to ground to disable the converter. As the pin voltage is ramped from 0V to 1.6V, the LED current ramps from 0 to ILED21(= 200mV/RFB2). Any voltage above 1.6V does (See Datasheet)", 10 FB1 (in) "Feedback Pin for Converter 1. The nominal voltage at this pin is 200mV. Connect cathode of the lowest LED and the feedback resisitor at this pin. The LED current can be programmed by : ILED2 ˜ (200mV/RFB2), when VCTRL2 > 1(See Datasheet)", 11 EP (power) "The Exposed Pad must be soldered to the PCB system ground."

## LT3466EDD-1#TRPBF
designator U?
White LED Driver and Boost Converter, 2.7 to 24 V Vin, 39.5 V Vout MAX, 10-pin SON (DD-10), -40 to 85 degC, Pb-Free, Tape and Reel; Manufacturer: Linear Technology; PartNumber: LT3466EDD-1#TRPBF; Vin Min(V): 2.7; PackageVersion: Rev. C, 06/2010; PackageReference: DD-10; PackageDescription: 10-Pin Plastic DFN, Body 3 x 3 mm, Pitch 0.5 mm; Supplier 1: Digi-Key; Supplier Part Number 1: LT3466EDD-1#TRPBF-ND; Packing: Tape and Reel; RoHS: TRUE; Topology: Boost; Mounting Technology: Surface Mount; Code_JEDEC: MO-229; ComponentLink1Description: Manufacturer URL; ComponentLink1URL: http://www.linear.com/; ComponentLink2Description: Datasheet; ComponentLink2URL: http://cds.linear.com/docs/en/datasheet/34661f.pdf; ComponentLink3Description: Package Specification; ComponentLink3URL: http://cds.linear.com/docs/en/packaging/DFN_10_05-08-1699.pdf
footprint LT-DD-10_V (SON, 10-Leads, Body 3x3mm, Pitch 0.5mm, Thermal Pad 2.38x1.65mm)
pins: 1 VOUT1 (power) "Output of Converter 1. This pin is connected to the cathode of the internal Schottky diode.Connect an output capacitor from this pin to ground", 2 SW1 "Switch Pin for Converter 1. Connect the inductor at this pin", 3 VIN (power) "Input Supply Pin. Must be locallybypassed with a 1uF, X5R or X7R type ceramic capacitor.", 4 SW2 "Switch Pin for Converter 2. Connect the inductor at this pin.", 5 VOUT2 (power) "Output of Converter 2. This pin is connected to the cathode of the internal Schottky diode.Connect an output capacitor from this pin to ground", 6 FB2 (in), 7 CTRL2 (in), 8 RT "Timing Resistor to Program the Switching Frequency. The switching frequency can be programmed from 200KHz to 2MHz", 9 CTRL1 (in) "Dimming and Shutdown Pin for Converter 1. Connect this pin to ground to disable the converter. As the pin voltage is ramped from 0V to 1.6V, the LED current ramps from 0 to ILED21(= 200mV/RFB2). Any voltage above 1.6V does (See Datasheet)", 10 FB1 (in) "Feedback Pin for Converter 1. The nominal voltage at this pin is 200mV. Connect cathode of the lowest LED and the feedback resisitor at this pin. The LED current can be programmed by : ILED2 ˜ (200mV/RFB2), when VCTRL2 > 1(See Datasheet)", 11 EP (power) "The Exposed Pad must be soldered to the PCB system ground."

## LT3466EFE
designator U?
Dual Outputs / Integrated Schottky, Soft-Start, 2.7 to 24 V Vin, 39.5 V Vout MAX, 16-pin SOP (FE-16-EPV-BB), -40 to 85 degC; Manufacturer: Linear Technology; PartNumber: LT3466EFE; Topology: Boost, LED Driver; Vin Min(V): 2.7; DatasheetVersion: Rev. A; PackageVersion: Rev. J, 11/2012; PackageReference: FE-16; PackageDescription: 16-Pin Plastic TSSOP, Body 5 x 4.4 mm, Pitch 0.65 mm; RoHS: FALSE; Mounting Technology: Surface Mount; ComponentLink1Description: Manufacturer URL; ComponentLink1URL: http://www.linear.com/; ComponentLink2Description: Datasheet; ComponentLink2URL: http://cds.linear.com/docs/en/datasheet/3466fa.pdf; ComponentLink3Description: Package Specification; ComponentLink3URL: http://cds.linear.com/docs/en/packaging/05081663__J_FE16(BB).pdf
footprint LT-FE-16-EPV-BB_N (SOP, 16-Leads, Body 5.1x4.5mm, Pitch 0.65mm, Thermal Pad 3.58x2.94mm, IPC Medium Density)
footprint LT-FE-16-EPV-BB_L (SOP, 16-Leads, Body 5.1x4.5mm, Pitch 0.65mm, Thermal Pad 3.58x2.94mm, IPC High Density)
footprint LT-FE-16-EPV-BB_M (SOP, 16-Leads, Body 5.1x4.5mm, Pitch 0.65mm, Thermal Pad 3.58x2.94mm, IPC Low Density)
pins: 1 GND (power) "These pins are internally fused to the Exposed Pad (TSSOP package only). Connect these GND pins and the Exposed Pad to the PCB system ground.", 2 NC, 3 VOUT1 (power) "Output of Converter 1. This pin is connected to the cathode of the internal Schottky diode. Connect an output capacitor from this pin to ground.", 4 SW1 "Switch Pin for Converter 1. Connect the inductor at this pin.", 5 VIN (power) "Input Supply Pin. Must be locally bypassed with a 1uF, X5R or X7R type ceramic capacitor.", 6 SW2 "Switch Pin for Converter 2. Connect the inductor at this pin.", 7 VOUT2 (power) "Output of Converter 2. This pin is connected to the cathode of the internal Schottky diode. Connect an output capacitor from this pin to ground.", 8 GND (power) "These pins are internally fused to the Exposed Pad (TSSOP package only). Connect these GND pins and the Exposed Pad to the PCB system ground.", 9 GND (power) "These pins are internally fused to the Exposed Pad (TSSOP package only). Connect these GND pins and the Exposed Pad to the PCB system ground.", 10 FB2 (in) "Feedback Pin for Converter 2. The nominal voltage at this pin is 200mV. Connect cathode of the lowest LED and the feedback resisitor at this pin.", 11 CTRL2 (in) "Dimming and Shutdown Pin for Converter 2. Connect this pin to ground to disable the converter. As the pin voltage is ramped from 0V to 1.6V, the LED current ramps from 0 to ILED2 (= 200mV/RFB2). Any voltage above 1.6V does (See Datasheet)", 12 RT "Timing Resistor to Program the Switching Frequency. The switching frequency can be programmed from 200KHz to 2MHz.", 13 NC, 14 CTRL1 (in) "Dimming and Shutdown Pin for Converter 1. Connect this pin to ground to disable the converter. As the pin voltage is ramped from 0V to 1.6V, the LED current ramps from 0 to ILED1 (= 200mV/RFB1). Any voltage above 1.6V does (See Datasheet)", 15 FB1 (in) "Feedback Pin for Converter 1. The nominal voltage at this pin is 200mV. Connect cathode of the lowest LED and the feedback resistor at this pin.", 16 GND (power) "These pins are internally fused to the Exposed Pad (TSSOP package only). Connect these GND pins and the Exposed Pad to the PCB system ground.", 17 EP (power) "The Exposed Pad must be soldered to the PCB system ground."